# Altium schematic symbol library LDO_TI_LP3985.SchLib: 1 symbol
Pins are listed as number, name and electrical type; pins without a type are passive.

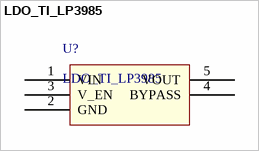
[diagram p0: symbol LDO_TI_LP3985]

## LDO_TI_LP3985
designator U?
LDO_TI_LP3985,150mA,CMOS
pins: 1 VIN (power), 2 GND, 3 V_EN, 4 BYPASS, 5 VOUT (power)